# EAGLE library part ADC_CON_CS1 (library Arduino_Board)
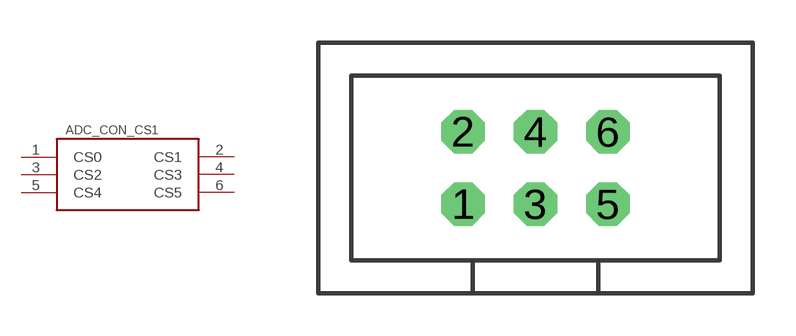
[diagram p2: symbol with the pads of T821_2X03; footprint T821_2X03]

Designator prefix -

## ADC_CON_CS1  [T821_2X03]
1  CS0
2  CS1
3  CS2
4  CS3
5  CS4
6  CS5

## Footprint T821_2X03 (pad centres in mm)
drill 1.016 octagon: 1 -2.54,-1.27; 2 -2.54,1.27; 3 0,-1.27; 4 0,1.27; 5 2.54,-1.27; 6 2.54,1.27